# Altium footprint library WE-ASI.PcbLib: 3 footprints
Each footprint in its own frame and in the unit in brackets; x right, y up, seen from the top. Pads: shape width x height; smd on the part's side, far side on the other; paste and mask are expansions set on the pad; w line width, h text height; cw(c..) or ccw(c..) is an arc to the next point about the centre after c.
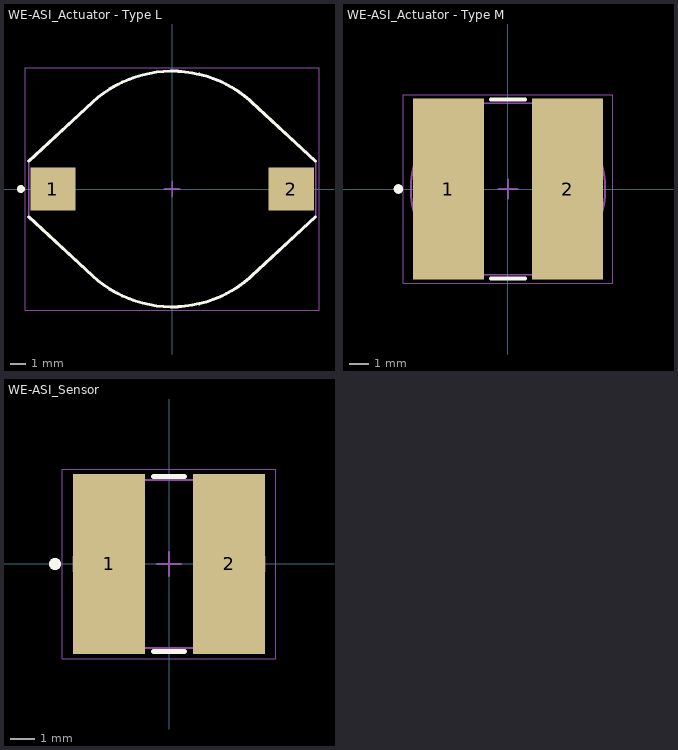
[diagram p0: the footprints below, top view; thin cyan lines are the x and y axes]

## WE-ASI_Actuator - Type L [mm] "Inductor, 2-Leads, Body 18.54x15.24mm"
height 12
pads (2):
  rect 2.92x2.79 smd: 1(-7.685,0) 2(7.685,0)
Top Overlay:
  circle w0.25: c-9.75,0 r0.125
  lines w0.2: -9.25,-1.8 -5.131,-5.594 ; -9.25,1.8 -5.131,5.594 ; -5.137,-5.601 ccw(c0,0) 5.345,-5.403 ; -5.137,5.601 cw(c0,0) 5.345,5.403 ; 5.131,-5.594 9.25,-1.8 ; 5.131,5.594 9.25,1.8
Top Assembly:
  circle w0.1: c-8.25,0 r0.5
  lines w0.1: -5.137,-5.601 ccw(c0,0) 5.345,-5.403 ; -5.137,5.601 cw(c0,0) 5.345,5.403 ; -5.131,-5.594 -9.25,-1.8 -9.25,1.8 -5.131,5.594 ; 5.131,-5.594 9.25,-1.8 9.25,1.8 5.131,5.594
Top Designator:
  text ".Designator" at -3.647,-0.357 h1
Top 3D Body:
  circle w0.1: c-8.25,0 r0.5
  lines w0.1: -5.137,-5.601 ccw(c0,0) 5.345,-5.403 ; -5.137,5.601 cw(c0,0) 5.345,5.403 ; -5.131,-5.594 -9.25,-1.8 -9.25,1.8 -5.131,5.594 ; 5.131,-5.594 9.25,-1.8 9.25,1.8 5.131,5.594
Top Courtyard:
  lines w0.05: -9.47,-7.82 9.47,-7.82 9.47,7.82 -9.47,7.82 -9.47,-7.82
Top Component Center:
  lines w0.1: -0.5,0 0.5,0 ; 0,-0.5 0,0.5
3D body "Typ_L_74458308.stp": height 12, standoff 0, extent -9.27,-7.62 9.27,7.62

## WE-ASI_Actuator - Type M [mm] "Inductor, 2-Leads, body 10.20x9.00mm"
height 6.9
pads (2):
  rect 3.75x9.5 smd: 1(-3.125,0) 2(3.125,0)
Top Overlay:
  circle w0.25: c-5.75,0 r0.125
  lines w0.2: -0.9,-4.7 0.9,-4.7 ; -0.9,4.7 0.9,4.7
Top Assembly:
  circle w0.1: c-4.352,0 r0.3
  lines w0.1: -2.4,-4.5 cw(c0,0) -2.4,4.5 2.4,4.5 cw(c0,0) 2.4,-4.5 -2.4,-4.5
Top Designator:
  text ".Designator" at -3.647,-0.357 h1
Top 3D Body:
  circle w0.1: c-4.352,0 r0.3
  lines w0.1: -2.4,-4.5 cw(c0,0) -2.4,4.5 2.4,4.5 cw(c0,0) 2.4,-4.5 -2.4,-4.5
Top Courtyard:
  lines w0.05: -5.5,-4.95 5.5,-4.95 5.5,4.95 -5.5,4.95 -5.5,-4.95
Top Component Center:
  lines w0.1: -0.5,0 0.5,0 ; 0,-0.5 0,0.5
3D body "Typ_M_744776347.stp": height 6.5, standoff -0.01, extent -5.052,-4.5 5.052,4.5

## WE-ASI_Sensor [mm] "Inductor, 2-Leads, body 8.00x7.00mm"
height 5.5
pads (2):
  rect 3x7.5 smd: 1(-2.5,0) 2(2.5,0)
Top Overlay:
  circle w0.25: c-4.75,0 r0.125
  lines w0.2: -0.65,-3.65 0.65,-3.65 ; -0.65,3.65 0.65,3.65
Top Assembly:
  circle w0.1: c-3.4,0 r0.25
  lines w0.1: -1.9,-3.5 cw(c0,0) -1.9,3.5 1.9,3.5 cw(c0,0) 1.9,-3.5 -1.9,-3.5
Top Designator:
  text ".Designator" at -3.647,-0.357 h1
Top 3D Body:
  circle w0.1: c-3.4,0 r0.25
  lines w0.1: -1.9,-3.5 cw(c0,0) -1.9,3.5 1.9,3.5 cw(c0,0) 1.9,-3.5 -1.9,-3.5
Top Courtyard:
  lines w0.05: -4.45,-3.95 4.45,-3.95 4.45,3.95 -4.45,3.95 -4.45,-3.95
Top Component Center:
  lines w0.1: -0.5,0 0.5,0 ; 0,-0.5 0,0.5
3D body "Sensor_744775360.stp": height 5, standoff -0.01, extent -3.947,-3.5 3.938,3.5